# EAGLE library part DSPIC33EP256MU806-I/PT (library piccoli)
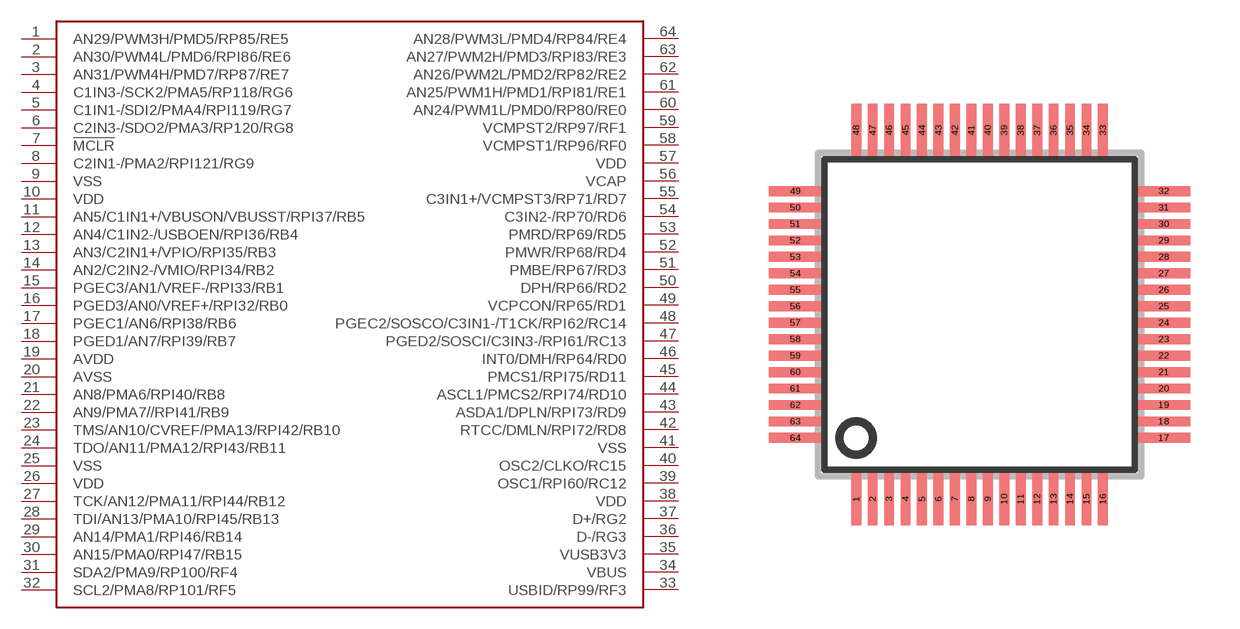
[diagram p12: symbol with the pads of S-PQFP-G64; footprint S-PQFP-G64]

Designator prefix -

## DSPIC33EP256MU806-I/PT  [S-PQFP-G64]
1  AN29/PWM3H/PMD5/RP85/RE5
2  AN30/PWM4L/PMD6/RPI86/RE6
3  AN31/PWM4H/PMD7/RP87/RE7
4  C1IN3-/SCK2/PMA5/RP118/RG6
5  C1IN1-/SDI2/PMA4/RPI119/RG7
6  C2IN3-/SDO2/PMA3/RP120/RG8
7  !MCLR!  in
8  C2IN1-/PMA2/RPI121/RG9
9  VSS  pwr
10  VDD  pwr
11  AN5/C1IN1+/VBUSON/VBUSST/RPI37/RB5
12  AN4/C1IN2-/USBOEN/RPI36/RB4
13  AN3/C2IN1+/VPIO/RPI35/RB3
14  AN2/C2IN2-/VMIO/RPI34/RB2
15  PGEC3/AN1/VREF-/RPI33/RB1
16  PGED3/AN0/VREF+/RPI32/RB0
17  PGEC1/AN6/RPI38/RB6
18  PGED1/AN7/RPI39/RB7
19  AVDD  pwr
20  AVSS  pwr
21  AN8/PMA6/RPI40/RB8
22  AN9/PMA7//RPI41/RB9
23  TMS/AN10/CVREF/PMA13/RPI42/RB10
24  TDO/AN11/PMA12/RPI43/RB11
25  VSS  pwr
26  VDD  pwr
27  TCK/AN12/PMA11/RPI44/RB12
28  TDI/AN13/PMA10/RPI45/RB13
29  AN14/PMA1/RPI46/RB14
30  AN15/PMA0/RPI47/RB15
31  SDA2/PMA9/RP100/RF4
32  SCL2/PMA8/RP101/RF5
33  USBID/RP99/RF3
34  VBUS
35  VUSB3V3
36  D-/RG3
37  D+/RG2
38  VDD  pwr
39  OSC1/RPI60/RC12
40  OSC2/CLKO/RC15
41  VSS  pwr
42  RTCC/DMLN/RPI72/RD8
43  ASDA1/DPLN/RPI73/RD9
44  ASCL1/PMCS2/RPI74/RD10
45  PMCS1/RPI75/RD11
46  INT0/DMH/RP64/RD0
47  PGED2/SOSCI/C3IN3-/RPI61/RC13
48  PGEC2/SOSCO/C3IN1-/T1CK/RPI62/RC14
49  VCPCON/RP65/RD1
50  DPH/RP66/RD2
51  PMBE/RP67/RD3
52  PMWR/RP68/RD4
53  PMRD/RP69/RD5
54  C3IN2-/RP70/RD6
55  C3IN1+/VCMPST3/RP71/RD7
56  VCAP  pwr
57  VDD  pwr
58  VCMPST1/RP96/RF0
59  VCMPST2/RP97/RF1
60  AN24/PWM1L/PMD0/RP80/RE0
61  AN25/PWM1H/PMD1/RPI81/RE1
62  AN26/PWM2L/PMD2/RP82/RE2
63  AN27/PWM2H/PMD3/RPI83/RE3
64  AN28/PWM3L/PMD4/RP84/RE4

## Footprint S-PQFP-G64 (pad centres in mm)
smd 0.3 x 1.6: 1 -3.85,-5.6; 2 -3.35,-5.6; 3 -2.85,-5.6; 4 -2.35,-5.6; 5 -1.85,-5.6; 6 -1.35,-5.6; 7 -0.85,-5.6; 8 -0.35,-5.6; 9 0.15,-5.6; 10 0.65,-5.6; 11 1.15,-5.6; 12 1.65,-5.6; 13 2.15,-5.6; 14 2.65,-5.6; 15 3.15,-5.6; 16 3.65,-5.6; 33 3.65,5.6; 34 3.15,5.6; 35 2.65,5.6; 36 2.15,5.6; 37 1.65,5.6; 38 1.15,5.6; 39 0.65,5.6; 40 0.15,5.6; 41 -0.35,5.6; 42 -0.85,5.6; 43 -1.35,5.6; 44 -1.85,5.6; 45 -2.35,5.6; 46 -2.85,5.6; 47 -3.35,5.6; 48 -3.85,5.6
smd 1.6 x 0.3: 17 5.5,-3.75; 18 5.5,-3.25; 19 5.5,-2.75; 20 5.5,-2.25; 21 5.5,-1.75; 22 5.5,-1.25; 23 5.5,-0.75; 24 5.5,-0.25; 25 5.5,0.25; 26 5.5,0.75; 27 5.5,1.25; 28 5.5,1.75; 29 5.5,2.25; 30 5.5,2.75; 31 5.5,3.25; 32 5.5,3.75; 49 -5.7,3.75; 50 -5.7,3.25; 51 -5.7,2.75; 52 -5.7,2.25; 53 -5.7,1.75; 54 -5.7,1.25; 55 -5.7,0.75; 56 -5.7,0.25; 57 -5.7,-0.25; 58 -5.7,-0.75; 59 -5.7,-1.25; 60 -5.7,-1.75; 61 -5.7,-2.25; 62 -5.7,-2.75; 63 -5.7,-3.25; 64 -5.7,-3.75